# Altium schematic symbol library CONECTER.SchLib: 149 symbols (part 1 of 2)
Pins are listed as number, name and electrical type; pins without a type are passive.

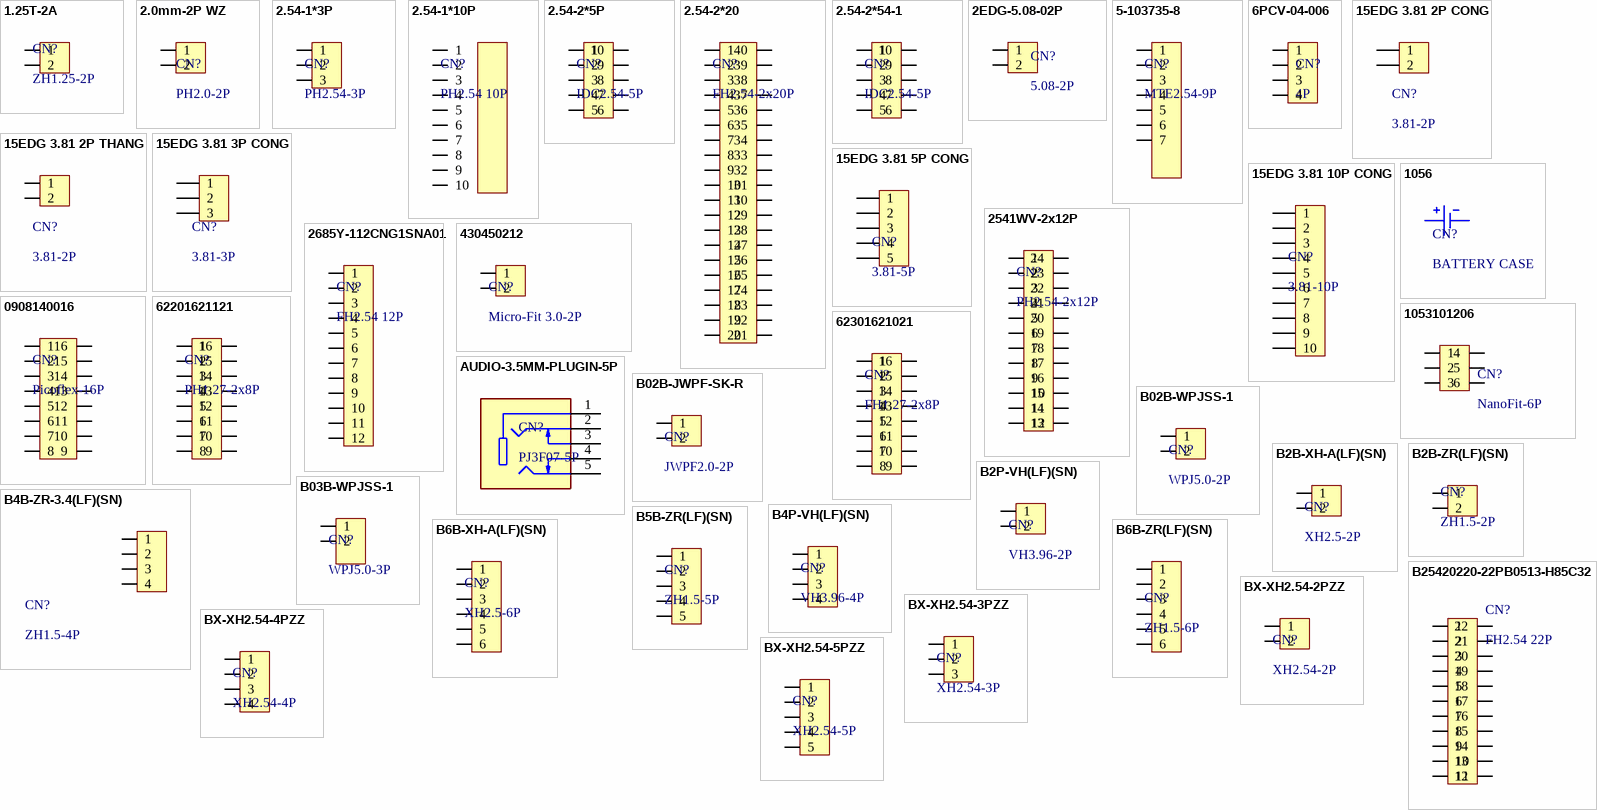
[diagram p0: symbols 1.25T-2A to BX-XH2.54-5PZZ]

## 1.25T-2A
designator CN?, comment ZH1.25-2P
2P 1x2P PicoBlade(MX 1.25) Tin -25℃~+85℃ Beige 1.25mm 250V 2 3A 1 Through Hole Through Hole,P=1.25mm Headers, Male Pins RoHS; Manufacturer: BOOMELE(Boom Precision Elec); Mfr.Part #: 1.25T-2A; LCSC Part #: C145970; Package: Through Hole,P=1.25mm; DigiKey Part Number: NO
footprint Plugin,P=1.25mm,2P
pins: 1, 2

## 2.0mm-2P WZ
designator CN?, comment PH2.0-2P
2P 1x2P PH Tin -25℃~+85℃ White 2mm 250V 2 1A 1 Right Angle Through Hole,Right Angle,P=2mm Headers, Male Pins RoHS; Manufacturer: SHOU HAN; Mfr.Part #: 2.0MM-2P WZ; So_Chan_Dan: 0; LCSC Part #: C5368738; Package: Through Hole,Right Angle,P=2mm; DigiKey Part Number: NO
footprint Push-Pull,P=2mm,2P-2
footprint Push-Pull,P=2mm,2P-1
footprint Plugin,P=2.54mm,2P-1
pins: 1, 2

## 2.54-1*3P
designator CN?, comment PH2.54-3P
3P 1x3P Gold Brass -40℃~+105℃ Black Pin Header 2.54mm 2.5mm 6mm 3mm 1 3A Through Hole Through Hole,P=2.54mm Headers, Male Pins RoHS; Manufacturer: BOOMELE(Boom Precision Elec); Mfr.Part #: 2.54-1*3P; LCSC Part #: C49257; Package: Through Hole,P=2.54mm; DigiKey Part Number: NO
footprint Plugin,P=2.54mm,3P,Pin Headers
pins: 1, 2, 3

## 2.54-1*10P
designator CN?, comment PH2.54 10P
3A Direct Insert Policy 10P -40℃~+105℃ 2.54mm Single Row Black 1x10P Plugin,P=2.54mm Pin Headers ROHS; Manufacturer: BOOMELE(Boom Precision Elec); Mfr.Part #: 2.54-1*10P; Name: PH2.54 1x10P THANG; So_Chan_Cam: 10; So_Chan_Dan: 0; Package: Plugin,P=2.54mm
footprint Plugin,P=2.54mm,10P,Pin Headers
footprint Plugin,P=2.54mm,10P-1
pins: 1, 2, 3, 4, 5, 6, 7, 8, 9, 10

## 2.54-2*5P
designator CN?, comment IDC2.54-5P
Connector IDC Header Through Hole 10 position 2.54mm; Manufacturer: BOOMELE(Boom Precision Elec); Mfr.Part #: 2.54-2*5P; LCSC Part #: C5665; Package: Through Hole,P=2.54mm; DigiKey Part Number: NO; ComponentLink1Description: Link; ComponentLink1URL: https://www.lcsc.com/product-detail/C5665.html?s_z=n_2.54-2%2a5P
footprint IDC Through Hole,Right Angle,P=2.54mm, 2x5P
pins: 1, 2, 3, 4, 5, 6, 7, 8, 9, 10

## 2.54-2*20
designator CN?, comment FH2.54-2x20P
Female Header 40 Position 2.54mm Pitch Dual Row Through Hole -40℃~+105℃; Manufacturer: ZHOURI; Mfr.Part #: 2.54-2*20; LCSC Part #: C2977589; Package: Through Hole,P=2.54mm; DigiKey Part Number: NO; ComponentLink1Description: Link; ComponentLink1URL: https://www.lcsc.com/datasheet/C2977589.pdf
footprint Plugin,P=2.54mm,2x20P,Female Headers
pins: 1, 2, 3, 4, 5, 6, 7, 8, 9, 10, 11, 12, 13, 14, 15, 16, 17, 18, 19, 20, 21, 22, 23, 24, 25, 26, 27, 28, 29, 30, 31, 32, 33, 34, 35, 36, 37, 38, 39, 40

## 2.54-2*54-1
designator CN?, comment IDC2.54-5P
Connector IDC Header Through Hole, Right Angle 10 position 2.54mm; Manufacturer: BOOMELE(Boom Precision Elec); Mfr.Part #: 2.54-2*5P; LCSC Part #: C9140; Package: Through Hole,Right Angle,P=2.54mm; DigiKey Part Number: NO; ComponentLink1Description: Link; ComponentLink1URL: https://www.lcsc.com/product-detail/C9140.html?s_z=n_2.54-2%2a5P
footprint IDC Through Hole,P=2.54mm, 2X5P
pins: 1, 2, 3, 4, 5, 6, 7, 8, 9, 10

## 2EDG-5.08-02P
designator CN?, comment 5.08-2P
320V 20A 2 Bend -40℃~+105℃ 1 5.08mm 1x2P Green Board Edge/Receptacle-Close Push-Pull,P=5.08mm Pluggable System Terminal Block ROHS; Manufacturer: DORABO; Mfr.Part #: DB2ERC-5.08-2P-GN; Name: 2EDG-5.08-02P; So_Chan_Cam: 2; So_Chan_Dan: 0; Package: Push-Pull,P=5.08mm
footprint Push-Pull,P=5.08mm,2P(2EDG-5.08-02P)
pins: 1, 2

## 5-103735-8
designator CN?, comment MTE2.54-9P
Connector Header Through Hole 9 position 0.100" (2.54mm); Manufacturer: TE Connectivity AMP Connectors; Mfr.Part #: 5-103735-8; DigiKey Part Number: A33940-ND; Package: Plugin,P=2.54mm
footprint Plugin,P=2.54mm,7P
footprint Plugin,P=2.54mm,7P-1
pins: 1, 2, 3, 4, 5, 6, 7

## 6PCV-04-006
designator CN?, comment 4P
4 Circuit 0.375" (9.53mm) Barrier Block Connector Screws; Manufacturer: TE Connectivity AMP Connectors; Mfr.Part #: 6PCV-04-006; So_Chan_Cam: 2; So_Chan_Dan: 0; Web: Digikey; Name: 6PCV-04-006; Package: Plugin,P=375mil; ComponentLink1Description: Link; ComponentLink1URL: https://www.te.com/usa-en/product-4-1437652-0.datasheet.pdf
footprint Plugin,P=375mil,L=811mil,4P
pins: 1, 2, 3, 4

## 15EDG 3.81 2P CONG
designator CN?, comment 3.81-2P
2 Straight Needle 1 3.81mm Green Plugin,P=3.81mm Pluggable System Terminal Block ROHS; Manufacturer: Phoenix Contact; Mfr.Part #: 5444262; Name: 15EDG 3.81 2P CONG; So_Chan_Dan: 0; So_Chan_Cam: 2; Package: Plugin,P=3.81,90°, Right Angle
footprint Plugin,P=3.81,90°, Right Angle,2P
pins: 1, 2

## 15EDG 3.81 2P THANG
designator CN?, comment 3.81-2P
3.81mm Plugin,P=3.81mm Pluggable System Terminal Block ROHS; Manufacturer: HCTL; Mfr.Part #: HC15EDGVC-3.81-2P-V; Name: 15EDG 3.81 2P CONG; So_Chan_Dan: 0; So_Chan_Cam: 2; Package: Plugin,P=3.81mm
footprint Plugin,P=3.81,2P
pins: 1, 2

## 15EDG 3.81 3P CONG
designator CN?, comment 3.81-3P
160V 8A 3 Bend 1 3.81mm 1x3P Green Receptacle-Close Push-Pull,P=3.81mm Pluggable System Terminal Block ROHS; Manufacturer: Phoenix Contact; Mfr.Part #: 1803280; Name: 15EDG 3.81 3P CONG; So_Chan_Dan: 0; So_Chan_Cam: 3; Package: Plugin,P=3.81,90°, Right Angle
footprint Plugin,P=3.81,90°, Right Angle,3P
pins: 1, 2, 3

## 15EDG 3.81 5P CONG
designator CN?, comment 3.81-5P
160V 8A 5 Bend 1 3.81mm 1x5P Green Receptacle-Close Push-Pull,P=3.81mm Pluggable System Terminal Block ROHS; Manufacturer: Phoenix Contact; Mfr.Part #: 1803303; Name: 15EDG 3.81 3P CONG; So_Chan_Dan: 0; So_Chan_Cam: 5; Package: Plugin,P=3.81,90°, Right Angle
footprint Plugin,P=3.81,90°, Right Angle,5P
pins: 1, 2, 3, 4, 5

## 15EDG 3.81 10P CONG
designator CN?, comment 3.81-10P
P=3.81mm Pluggable System Terminal Block ROHS; Manufacturer: Phoenix Contact; Mfr.Part #: 1803358; Name: 15EDG 3.81 10P CONG; So_Chan_Dan: 0; So_Chan_Cam: 10; Package: Plugin,P=3.81,90°, Right Angle
footprint Plugin,P=3.81,90°, Right Angle,10p
pins: 1, 2, 3, 4, 5, 6, 7, 8, 9, 10

## 1056
designator CN?, comment BATTERY CASE
SMD Battery Product Accessories RoHS; Manufacturer: Keystone; Mfr.Part #: 1056; So_Chan_Cam: 0; LCSC Part #: C238067; Package: SMD
footprint SMD,BAT_CASE_1056
pins: 1, 2

## 2541WV-2x12P
designator CN?, comment PH2.54-2x12P
Gold Straight Policy 2.54mm 6mm 24P -55℃~+105℃ 3mm 2.54mm Double Row 2x12P Plugin,P=2.54mm Pin Headers ROHS; Manufacturer: HanElectricity; Mfr.Part #: 2541WV-2x12P; Package: Plugin,P=2.54mm; LCSC Part #: C5383110
footprint Plugin,P=2.54mm,2X12P,Pin Headers
pins: 1, 2, 3, 4, 5, 6, 7, 8, 9, 10, 11, 12, 13, 14, 15, 16, 17, 18, 19, 20, 21, 22, 23, 24

## 2685Y-112CNG1SNA01
designator CN?, comment FH2.54 12P
2.54mm 2.54mm 3A Single Row Gold 12P -40℃~+105℃ Brass Straight 1x12P 8.5mm Top Square Hole Plugin,P=2.54mm Female Headers ROHS; Manufacturer: HOAUC; Mfr.Part #: 2685Y-112CNG1SNA01; Package: Plugin,P=2.54mm; LCSC Part #: C5110232
footprint Plugin,P=2.54mm,12p,Female Headers
pins: 1, 2, 3, 4, 5, 6, 7, 8, 9, 10, 11, 12

## 430450212
designator CN?, comment Micro-Fit 3.0-2P
2x1P 2P Micro-Fit(MX 3.0) Tin 3mm 1 -40℃~+105℃ 8.5A 2 3mm Brass Through Hole Plugin,P=3mm Wire To Board Connector ROHS; Manufacturer: MOLEX; Mfr.Part #: 430450212; LCSC Part #: C293362; Package: Plugin,P=3mm
footprint Push-Pull,P=2.54mm,2P
pins: 1, 2

## 0908140016
designator CN?, comment Picoflex-16P
Connector Header Surface Mount 16 position 0.050" (1.27mm); Manufacturer: Molex; Mfr.Part #: 0908140016; DigiKey Part Number: WM19280-ND; Package: SMD,1.27mm
footprint Plugin,P=2.54mm,2x15P,Female Headers
pins: 1, 2, 3, 4, 5, 6, 7, 8, 9, 10, 11, 12, 13, 14, 15, 16

## 1053101206
designator CN?, comment NanoFit-6P
Connector Header Through Hole 6 position 0.098" (2.50mm); Manufacturer: Molex; Mfr.Part #: 1053101206; DigiKey Part Number: WM14970-ND; Package: Plugin,P=2.5mm
footprint Plugin,P=2.5mm,2X3P,Nano-Fit 6P Male
pins: 1, 2, 3, 4, 5, 6

## 62201621121
designator CN?, comment PH1.27-2x8P
Connector Header Through Hole 16 position 0.050" (1.27mm); Manufacturer: Würth Elektronik; Mfr.Part #: 62201621121; DigiKey Part Number: 732-5376-ND; Package: Plugin,P=1.27mm
footprint Plugin,P=1.27mm,2X8P,Pin Headers
pins: 1, 2, 3, 4, 5, 6, 7, 8, 9, 10, 11, 12, 13, 14, 15, 16

## 62301621021
designator CN?, comment FH1.27-2x8P
16 Position Receptacle Connector 0.050" (1.27mm) Surface Mount Gold; Manufacturer: Würth Elektronik; Mfr.Part #: 62301621021; DigiKey Part Number: 732-62301621021-ND; Package: SMD,P=1.27mm
footprint SMD,P=1.27mm,2x8P
pins: 1, 2, 3, 4, 5, 6, 7, 8, 9, 10, 11, 12, 13, 14, 15, 16

## AUDIO-3.5MM-PLUGIN-5P
designator CN?, comment PJ3F07-5P
-30℃~+70℃ 3.5mm headphone jack 30V 500mA Plugin Audio Connectors ROHS; MF: CUI Devices; MP: SJ1-3525N; SnapEDA_Link: https://www.snapeda.com/parts/SJ1-3525N/CUI+Devices/view-part/?ref=snap; Package: None; Value: *; CUI_purchase_URL: https://www.cuidevices.com/product/interconnect/connectors/audio-connectors/jacks/sj1-3525n?utm_source=snapeda.com&utm_medium=referral&utm_campaign=snapedaBOM; Check_prices: https://www.snapeda.com/parts/SJ1-3525N/CUI+Devices/view-part/?ref=eda
footprint AUDIO-3.5MM-PLUGIN-5P
pins: 1, 2, 3, 4, 5

## B02B-JWPF-SK-R
designator CN?, comment JWPF2.0-2P
Connector Header Through Hole 2 position 0.079" (2.00mm); Manufacturer: JST Sales America Inc.; Mfr.Part #: B02B-JWPF-SK-R; DigiKey Part Number: 455-1991-ND; Package: Plugin,P=2mm
footprint Push-Pull,P=2.54mm,2P
pins: 1, 2

## B02B-WPJSS-1
designator CN?, comment WPJ5.0-2P
Connector Header Through Hole 2 position 0.197" (5.00mm); Manufacturer: JST Sales America Inc.; Mfr.Part #: B02B-WPJSS-1; DigiKey Part Number: 455-B02B-WPJSS-1-ND; Package: Plugin,P=5mm
footprint Push-Pull,P=2.54mm,2P
pins: 1, 2

## B2B-XH-A(LF)(SN)
designator CN?, comment XH2.5-2P
Connector Header 2 position 2.5mm Pitch 3A Through Hole -25℃~+85℃; Manufacturer: JST; Mfr.Part #: B2B-XH-A(LF)(SN); LCSC Part #: C158012; Package: Through Hole,P=2.5mm; DigiKey Part Number: 455-B2B-XH-A-ND; ComponentLink1Description: Link; ComponentLink1URL: https://www.lcsc.com/product-detail/C158012.html?s_z=n_B2B-XH-A; ComponentLink2Description: Link 1; ComponentLink2URL: https://www.digikey.com/en/products/detail/jst-sales-america-inc/B2B-XH-A/1651045?s=N4IgTCBcDaIEJjgWgBoAkkEEAUAZAYgJTYDKAcoSALoC%2BQA
footprint Through Hole,P=2.5mm,2P,JST
pins: 1, 2

## B2B-ZR(LF)(SN)
designator CN?, comment ZH1.5-2P
2P 1x2P ZH Tin -25℃~+85℃ White 1.5mm 50V 2 1A 1 Through Hole Through Hole,P=1.5mm Headers, Male Pins ROHS; Manufacturer: JST; Mfr.Part #: B2B-ZR(LF)(SN); DigiKey Part Number: 455-B2B-ZR(LF)(SN)(P)-ND; Package: Through Hole,P=1.5mm; LCSC Part #: C158011; ComponentLink1Description: Link; ComponentLink1URL: https://www.lcsc.com/product-detail/C158011.html?s_z=n_C158011; ComponentLink2Description: Link 1; ComponentLink2URL: https://www.digikey.com/en/products/detail/jst-sales-america-inc/B2B-ZR/926564?s=N4IgTCBcDaIEJjgWgFoCUAUAZAYgSgwGUA5PEAXQF8g
footprint Plugin,P=1.5mm,2P
pins: 1, 2

## B2P-VH(LF)(SN)
designator CN?, comment VH3.96-2P
Connector Header 2 position 3.96mm Pitch 10A Through Hole -25℃~+85℃; Manufacturer: JST; Mfr.Part #: B2P-VH(LF)(SN); LCSC Part #: C160315; Package: Through Hole,P=3.96mm; DigiKey Part Number: 455-1639-ND; ComponentLink1Description: Link; ComponentLink1URL: https://www.lcsc.com/product-detail/C160315.html?s_z=n_C160315; ComponentLink2Description: Link 1; ComponentLink2URL: https://www.digikey.com/en/products/detail/jst-sales-america-inc/B2P-VH/926547?s=N4IgTCBcDaIEJgAoFoBqAJAFAGQGIEpMBlAOXxAF0BfIA
footprint Through Hole,P=3.96mm,2P
pins: 1, 2

## B03B-WPJSS-1
designator CN?, comment WPJ5.0-3P
Connector Header Through Hole 3 position 0.197" (5.00mm); Manufacturer: JST Sales America Inc.; Mfr.Part #: B03B-WPJSS-1; DigiKey Part Number: 455-B03B-WPJSS-1-ND; Package: Plugin,P=5mm
footprint Push-Pull,P=2.54mm,2P
pins: 1, 2

## B4B-ZR-3.4(LF)(SN)
designator CN?, comment ZH1.5-4P
Connector Header 4 position 1.5mm Pitch 1A Through Hole -25℃~+85℃; Manufacturer: JST; Mfr.Part #: B4B-ZR-3.4(LF)(SN); LCSC Part #: C163034; Package: Through Hole,P=1.5mm; DigiKey Part Number: 455-B4B-ZR-3.4-ND; ComponentLink1Description: Link; ComponentLink1URL: https://www.lcsc.com/product-detail/C163034.html?s_z=n_B4B-ZR-3.4%28LF%29%28SN%29; ComponentLink2Description: Link 1; ComponentLink2URL: https://www.digikey.com/en/products/detail/jst-sales-america-inc/B4B-ZR-3-4/7802273?s=N4IgTCBcDaIEIBY4FoBaAlZBmAdAgFADIBiAlPgMoBypIAugL5A
footprint Plugin,P=1.5mm,4P
pins: 1, 2, 3, 4

## B4P-VH(LF)(SN)
designator CN?, comment VH3.96-4P
1x4P 4P VH Tin 4 -25℃~+85℃ 10A 1 3.96mm Brass Through Hole Through Hole,P=3.96mm Wire To Board Connector ROHS; Manufacturer: JST; Mfr.Part #: B4P-VH(LF)(SN); LCSC Part #: C160317; Package: Through Hole,P=3.96mm
footprint Push-Pull,P=3.96mm,4P
pins: 1, 2, 3, 4

## B5B-ZR(LF)(SN)
designator CN?, comment ZH1.5-5P
1x5P 5P ZH Tin 5 -25℃~+85℃ 1A 1 1.5mm Brass Straight Plugin,P=1.5mm Wire To Board Connector ROHS; Manufacturer: JST; Mfr.Part #: B5B-ZR(LF)(SN); LCSC Part #: C157990; Package: Plugin,P=1.5mm
footprint Plugin,P=1.5mm,5P
pins: 1, 2, 3, 4, 5

## B6B-XH-A(LF)(SN)
designator CN?, comment XH2.5-6P
Connector Header 6 position 2.5mm Pitch 3A Through Hole -25℃~+85℃; Manufacturer: JST; Mfr.Part #: B6B-XH-A(LF)(SN); LCSC Part #: C144397; Package: Through Hole,P=2.5mm; DigiKey Part Number: 455-B6B-XH-A-ND; ComponentLink1Description: Link; ComponentLink1URL: https://www.lcsc.com/product-detail/C144397.html; ComponentLink2Description: Link 1; ComponentLink2URL: https://www.digikey.com/en/products/detail/jst-sales-america-inc/B6B-XH-A/1000381?s=N4IgTCBcDaIEIDY4FoAaAJZBBAFAGQDEBKHAZQDkiQBdAXyA
footprint Through Hole,P=2.5mm,6P,JST
pins: 1, 2, 3, 4, 5, 6

## B6B-ZR(LF)(SN)
designator CN?, comment ZH1.5-6P
1x6P 6P ZH Tin 6 -25℃~+85℃ 1A 1 1.5mm Brass Straight Plugin,P=1.5mm Wire To Board Connector ROHS; Manufacturer: JST; Mfr.Part #: B6B-ZR(LF)(SN); LCSC Part #: C157984; Package: Through Hole,P=1.5mm; DigiKey Part Number: 455-B6B-ZR-ND
footprint Plugin,P=1.5mm,6P
pins: 1, 2, 3, 4, 5, 6

## B25420220-22PB0513-H85C32
designator CN?, comment FH2.54 22P
2.54mm 1 22P Gold -40℃~+105℃ 1x22P Top 8.5mm 3A Square Hole Through Hole Through Hole,P=2.54mm Headers, Receptacles, Female Sockets ROHS; Manufacturer: HMTCONN; Mfr.Part #: B25420220-22PB0513-H85C32; LCSC Part #: C42385708; Package: Through Hole,P=2.54mm
footprint Plugin,P=2.54mm,22P,Female Headers
pins: 1, 2, 3, 4, 5, 6, 7, 8, 9, 10, 11, 12, 13, 14, 15, 16, 17, 18, 19, 20, 21, 22

## BX-XH2.54-2PZZ
designator CN?, comment XH2.54-2P
Connector Header 2 position 2.5mm Pitch 3A Through Hole -25℃~+85℃; Manufacturer: Bossie; Mfr.Part #: BX-XH2.54-2PZZ; LCSC Part #: C18077833; Package: Through Hole,P=2.5mm; DigiKey Part Number: NO; ComponentLink1Description: Link; ComponentLink1URL: https://www.lcsc.com/product-detail/C18077833.html?s_z=n_BX-XH2.54-2PZZ
footprint Plugin,P=2.54mm,2P
pins: 1, 2

## BX-XH2.54-3PZZ
designator CN?, comment XH2.54-3P
Connector Header 3 position 2.5mm Pitch 3A Through Hole -25℃~+85℃; Manufacturer: Bossie; Mfr.Part #: BX-XH2.54-3PZZ; LCSC Part #: C18077834; Package: Through Hole,P=2.5mm; DigiKey Part Number: NO; ComponentLink1Description: Link; ComponentLink1URL: https://www.lcsc.com/product-detail/C18077834.html?s_z=n_BX-XH2.54-3PZZ
footprint Plugin,P=2.54mm,3P
pins: 1, 2, 3

## BX-XH2.54-4PZZ
designator CN?, comment XH2.54-4P
Connector Header 4 position 2.5mm Pitch 3A Through Hole -25℃~+85℃; Manufacturer: Bossie; Mfr.Part #: BX-XH2.54-4PZZ; LCSC Part #: C18077835; Package: Through Hole,P=2.5mm; DigiKey Part Number: NO; ComponentLink1Description: Link; ComponentLink1URL: https://www.lcsc.com/product-detail/C18077835.html?s_z=n_BX-XH2.54-4PZZ
footprint Plugin,P=2.54mm,4P
pins: 1, 2, 3, 4

## BX-XH2.54-5PZZ
designator CN?, comment XH2.54-5P
Connector Header 5 position 2.5mm Pitch 3A Through Hole -25℃~+85℃; Manufacturer: Bossie; Mfr.Part #: BX-XH2.54-5PZZ; LCSC Part #: C18077836; Package: Through Hole,P=2.5mm; DigiKey Part Number: NO; ComponentLink1Description: Link; ComponentLink1URL: https://www.lcsc.com/product-detail/C18077836.html?s_z=n_BX-XH2.54-5PZZ; ComponentLink2Description: Link 1
footprint Through Hole,P=2.5mm,5P
pins: 1, 2, 3, 4, 5

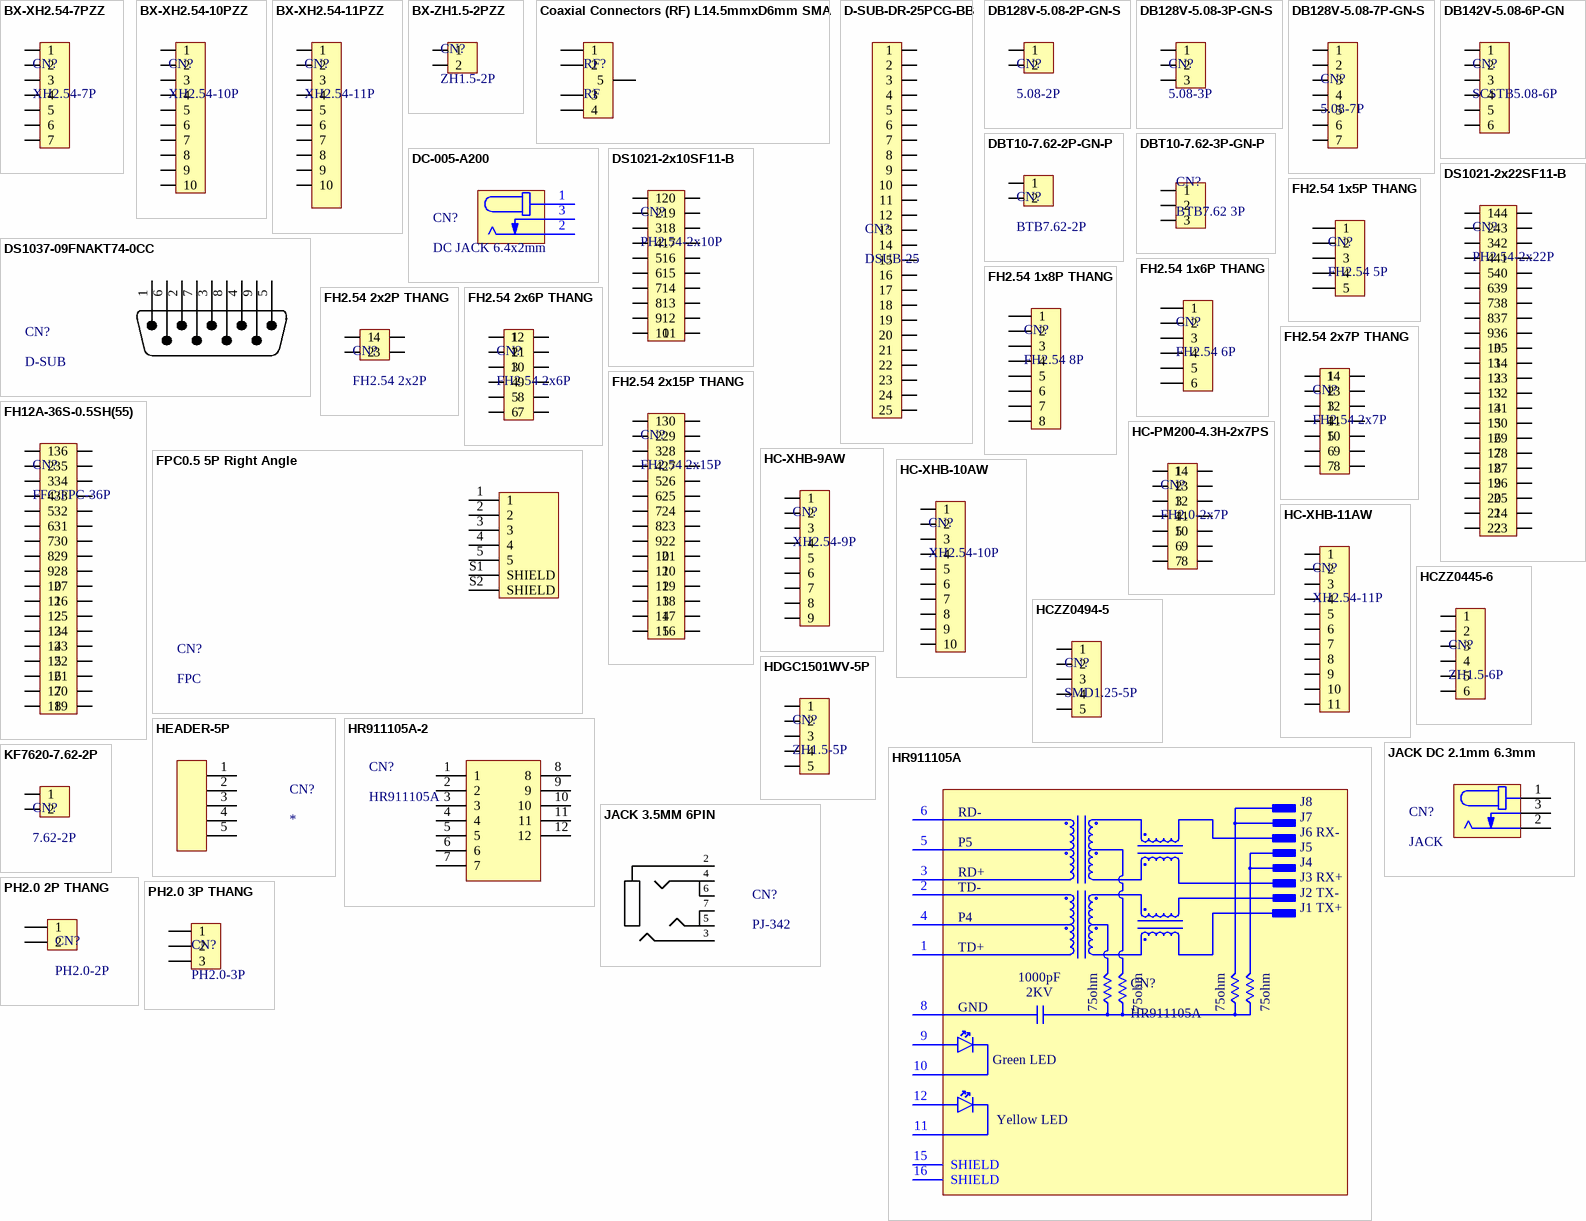
[diagram p1: symbols BX-XH2.54-7PZZ to PH2.0 3P THANG]

## BX-XH2.54-7PZZ
designator CN?, comment XH2.54-7P
Connector Header 7 position 2.5mm Pitch 3A Through Hole -25℃~+85℃; Manufacturer: Bossie; Mfr.Part #: BX-XH2.54-7PZZ; LCSC Part #: C18077838; Package: Through Hole,P=2.5mm; DigiKey Part Number: NO; ComponentLink1Description: Link; ComponentLink1URL: https://www.lcsc.com/product-detail/C18077838.html?s_z=n_BX-XH2.54-7PZZ; ComponentLink2Description: Link 1
footprint Plugin,P=2.54mm,7P
pins: 1, 2, 3, 4, 5, 6, 7

## BX-XH2.54-10PZZ
designator CN?, comment XH2.54-10P
Connector Header 10 position 2.5mm Pitch 3A Through Hole -25℃~+85℃; Manufacturer: Bossie; Mfr.Part #: BX-XH2.54-10PZZ; LCSC Part #: C18077841; Package: Through Hole,P=2.5mm; DigiKey Part Number: NO; ComponentLink1Description: Link; ComponentLink1URL: https://www.lcsc.com/product-detail/C18077841.html?s_z=n_BX-XH2.54-10PZZ
footprint Plugin,P=2.54mm,10P
pins: 1, 2, 3, 4, 5, 6, 7, 8, 9, 10

## BX-XH2.54-11PZZ
designator CN?, comment XH2.54-11P
Connector Header 11 position 2.5mm Pitch 3A Through Hole -25℃~+85℃; Manufacturer: Bossie; Mfr.Part #: BX-XH2.54-11PZZ; LCSC Part #: C22367994; Package: Through Hole,P=2.5mm; DigiKey Part Number: NO; ComponentLink1Description: Link; ComponentLink1URL: https://www.lcsc.com/product-detail/C22367994.html?s_z=n_BX-XH2.54-11PZZ
footprint Plugin,P=2.54mm,10P
pins: 1, 2, 3, 4, 5, 6, 7, 8, 9, 10

## BX-ZH1.5-2PZZ
designator CN?, comment ZH1.5-2P
1x3P 3P ZH Tin 3 -25℃~+85℃ 1A 1 1.5mm Brass Straight Plugin,P=1.5mm Wire To Board Connector ROHS; Manufacturer: Bossie; Mfr.Part #: BX-ZH1.5-2PZZ; Package: Through Hole,P=1.5mm; LCSC Part #: C18077727
footprint Plugin,P=1.5mm,2P
pins: 1, 2

## Coaxial Connectors (RF) L14.5mmxD6mm SMA
designator RF?, comment RF
1 Inner Hole SMA Board-End Elbow 50Ω 5.3mm Plugin Coaxial Connectors (RF) ROHS; Manufacturer: BAT WIRELESS; Mfr.Part #: BWSMA-KWE-Z001; Name: PH2.0 2P THANG; So_Chan_Cam: 5; So_Chan_Dan: 0; Package: Plugin
footprint SMA,RF
pins: 1, 2, 3, 4, 5

## D-SUB-DR-25PCG-BB
designator CN?, comment DSUB-25
Connector D-Sub, Male 25 Position 2 Row Through Hole, Right Angle; Mfr.Part#: D-SUB-DR-25PCG-BB; Manunfacturer: XUNPU; LCSC Part #: C19077345; Package: Through Hole,Right Angle; DigiKey Part Number: NO; ComponentLink1Description: Link; ComponentLink1URL: https://www.lcsc.com/product-detail/C19077345.html; ComponentLink2Description: Link 1
footprint D-Sub, 25P, Through Hole,Right Angle
pins: 1, 2, 3, 4, 5, 6, 7, 8, 9, 10, 11, 12, 13, 14, 15, 16, 17, 18, 19, 20, 21, 22, 23, 24, 25

## DB128V-5.08-2P-GN-S
designator CN?, comment 5.08-2P
2 Position Wire to Board Terminal Block Through Hole 5.08mm; Manufacturer: DORABO; Mfr.Part #: DB128V-5.08-2P-GN-S; LCSC Part #: C2915639; Package: Through Hole,P=5.08mm; DigiKey Part Number: NO; ComponentLink1Description: Link; ComponentLink1URL: https://www.lcsc.com/product-detail/C2915639.html?s_z=n_DB128V-5.08-2P-GN-S
footprint Through Hole,P=5.08mm,2P
pins: 1, 2

## DB128V-5.08-3P-GN-S
designator CN?, comment 5.08-3P
3 Position Wire to Board Terminal Block Through Hole 5.08mm; Manufacturer: DORABO; Mfr.Part #: DB128V-5.08-3P-GN-S; LCSC Part #: C2915640; Package: Through Hole,P=5.08mm; DigiKey Part Number: NO; ComponentLink1Description: Link; ComponentLink1URL: https://www.lcsc.com/product-detail/C2915640.html?s_z=n_DB128V-5.08-3P-GN-S; ComponentLink2Description: Link 1
footprint Through Hole,P=5.08mm,3P
pins: 1, 2, 3

## DB128V-5.08-7P-GN-S
designator CN?, comment 5.08-7P
7 Position Wire to Board Terminal Block Through Hole 2.54mm; Manufacturer: DORABO; Mfr.Part #: DB128V-5.08-7P-GN-S; LCSC Part #: C2927514; Package: Through Hole,P=5.08mm; DigiKey Part Number: NO; ComponentLink1Description: Link; ComponentLink1URL: https://www.lcsc.com/product-detail/C2927514.html; ComponentLink2Description: Link 1
footprint Through Hole,P=5.08mm,7P
pins: 1, 2, 3, 4, 5, 6, 7

## DB142V-5.08-6P-GN
designator CN?, comment SCSTB5.08-6P
1.5 5.08mm 14~24 1x6P -40℃~+105℃ 10A 6P 300V Straight Green 6 1 Plugin,P=5.08mm Spring Clamp System Terminal Block ROHS; Manufacturer: DORABO; Mfr.Part #: DB142V-5.08-6P-GN; Package: Plugin,P=5.08mm
footprint Plugin,P=5.08mm,6P-1
pins: 1, 2, 3, 4, 5, 6

## DBT10-7.62-2P-GN-P
designator CN?, comment BTB7.62-2P
1x2P Side Mount 2-Side 7.62mm 1 2 24A -40℃~+105℃ Green 14~22 Straight Pin Through Hole,P=7.62mm Barrier Blocks RoHS; Manufacturer: DORABO; Mfr.Part #: DBT10-7.62-2P-GN-P; LCSC Part #: C395930; Package: Through Hole,P=7.62mm; DigiKey Part Number: NO
footprint Plugin,P=7.62mm,2P
pins: 1, 2

## DBT10-7.62-3P-GN-P
designator CN?, comment BTB7.62 3P
1x3P Corner Double-sided 3 1 7.62mm 24A -40℃~+105℃ 450V Green 14~22 Straight Needle Plugin,P=7.62mm Barrier Terminal Blocks ROHS; Manufacturer: DORABO; Mfr.Part #: DBT10-7.62-3P-GN-P; Package: Plugin,P=7.62mm
footprint Plugin,P=7.62mm,3P
pins: 1, 2, 3

## DC-005-A200
designator CN?, comment DC JACK 6.4x2mm
Power Barrel Connector Jack 2mm ID 6.4mm OD Through Hole, Right Angle; Manufacturer: XUNPU; Mfr.Part #: DC-005-A200; LCSC Part #: C720557; Package: Through Hole; DigiKey Part Number: NO; ComponentLink1Description: Link; ComponentLink1URL: https://www.lcsc.com/product-detail/C720557.html
footprint Plugin,JACK DC
pins: 1, 2, 3

## DS1021-2x10SF11-B
designator CN?, comment PH2.54-2x10P
Pin Header 20 Position 2.54mm Pitch Dual Row Through Hole; Manufacturer: CONNFLY Elec; Mfr.Part #: DS1021-2x10SF11-B; LCSC Part #: C7430406; Package: Through Hole,P=2.54mm; DigiKey Part Number: NO
footprint Plugin,P=2.54mm,2X10P,PIN HEADERS
pins: 1, 2, 3, 4, 5, 6, 7, 8, 9, 10, 11, 12, 13, 14, 15, 16, 17, 18, 19, 20

## DS1021-2x22SF11-B
designator CN?, comment PH2.54-2x22P
Pin Header 44 Position 2.54mm Pitch Dual Row Through Hole; Manufacturer: CONNFLY Elec; Mfr.Part #: DS1021-2x22SF11-B; LCSC Part #: C7430418; Package: Through Hole,P=2.54mm; DigiKey Part Number: NO
footprint Plugin,P=2.54mm,2x22P,PIN HEADERS
pins: 1, 2, 3, 4, 5, 6, 7, 8, 9, 10, 11, 12, 13, 14, 15, 16, 17, 18, 19, 20, 21, 22, 23, 24, 25, 26, 27, 28, 29, 30, 31, 32, 33, 34, 35, 36, 37, 38, 39, 40, 41, 42, 43, 44

## DS1037-09FNAKT74-0CC
designator CN?, comment D-SUB
Connector Standard D-Sub, Female 9 Position 2 Row Through Hole, Right Angle; Manufacturer: CONNFLY Elec; Mfr.Part #: DS1037-09FNAKT74-0CC; LCSC Part #: C75749; Package: Through Hole,Right Angle; DigiKey Part Number: NO
footprint D-Sub, 9P,Push-Pull,Female
pins: 1, 2, 3, 4, 5, 6, 7, 8, 9

## FH2.54 1x5P THANG
designator CN?, comment FH2.54 5P
2.54mm Plugin 5P Straight 1x5P Plugin,P=2.54mm Female Headers ROHS; Manufacturer: BOOMELE(Boom Precision Elec); Mfr.Part #: 2.54-1*5P; Name: FH2.54 1x5P THANG; So_Chan_Cam: 5; So_Chan_Dan: 0; Package: Plugin,P=2.54mm
footprint Plugin,P=2.54mm,5P,Female Headers
pins: 1, 2, 3, 4, 5

## FH2.54 1x6P THANG
designator CN?, comment FH2.54 6P
2.54mm Plugin 6P Straight 1x6P Plugin,P=2.54mm Female Headers ROHS; Manufacturer: BOOMELE(Boom Precision Elec); Mfr.Part #: 2.54-1*6P; Name: FH2.54 1x6P THANG; So_Chan_Cam: 6; So_Chan_Dan: 0; Package: Plugin,P=2.54mm
footprint Plugin,P=2.54mm,6P,Female Headers
pins: 1, 2, 3, 4, 5, 6

## FH2.54 1x8P THANG
designator CN?, comment FH2.54 8P
2.54mm Single Row 8P Direct Insert 1x8P Plugin,P=2.54mm Female Headers ROHS; Manufacturer: BOOMELE(Boom Precision Elec); Mfr.Part #: 2.54-1*8P; Name: FH2.54 1x8P THANG; So_Chan_Cam: 8; So_Chan_Dan: 0; Package: Plugin,P=2.54mm
footprint Plugin,P=2.54mm,8P,Female Headers
pins: 1, 2, 3, 4, 5, 6, 7, 8

## FH2.54 2x2P THANG
designator CN?, comment FH2.54 2x2P
Top 2.54mm 8.5mm Direct Insert Square Hole -40℃~+105℃ 2x2P 2.54mm 3A Double Row 4P Copper alloy Plugin; Manufacturer: HCTL; Mfr.Part #: PM254-2-02-Z-8.5; Name: FH2.54 2x2P THANG; So_Chan_Cam: 4; So_Chan_Dan: 0; Package: Plugin,P=2.54mm
footprint Plugin,P=2.54mm,2x2P,Female Headers
pins: 1, 2, 3, 4

## FH2.54 2x6P THANG
designator CN?, comment FH2.54 2x6P
2.54mm 2.54mm Double Row 3A Copper alloy 12P -40℃~+105℃ Direct Insert 2x6P 8.5mm Top Square Hole Plugin,P=2.54mm Female Headers ROHS; Manufacturer: HCTL; Mfr.Part #: PM254-2-06-Z-8.5; Name: FH2.54 2x6P THANG; So_Chan_Cam: 12; So_Chan_Dan: 0; Package: Plugin,P=2.54mm
footprint Plugin,P=2.54mm,2x6P,Female Headers
pins: 1, 2, 3, 4, 5, 6, 7, 8, 9, 10, 11, 12

## FH2.54 2x7P THANG
designator CN?, comment FH2.54 2x7P
Top 2.54mm 8.5mm 2x7P Direct Insert Square Hole -40℃~+105℃ 2.54mm 3A Double Row 14P Copper alloy Plugin; Manufacturer: HCTL; Mfr.Part #: PM254-2-07-Z-8.5; Name: FH2.54 2x7P THANG; So_Chan_Cam: 14; So_Chan_Dan: 0; Package: Plugin,P=2.54mm
footprint Plugin,P=2.54mm,2x7P,Female Headers
pins: 1, 2, 3, 4, 5, 6, 7, 8, 9, 10, 11, 12, 13, 14

## FH2.54 2x15P THANG
designator CN?, comment FH2.54 2x15P
2.54mm 2.54mm Double Row 3A Copper alloy 30P -40℃~+105℃ Direct Insert 2x15P 8.5mm Top Square Hole Plugin,P=2.54mm Female Headers ROHS; Manufacturer: HCTL; Mfr.Part #: PM254-2-15-Z-8.5; Name: FH2.54 2x15P THANG; So_Chan_Cam: 30; So_Chan_Dan: 0; Package: Plugin,P=2.54mm
footprint Plugin,P=2.54mm,2x15P,Female Headers
pins: 1, 2, 3, 4, 5, 6, 7, 8, 9, 10, 11, 12, 13, 14, 15, 16, 17, 18, 19, 20, 21, 22, 23, 24, 25, 26, 27, 28, 29, 30

## FH12A-36S-0.5SH(55)
designator CN?, comment FFC/FPC-36P
FFC/FPC Connector 36 Position 0.5mm Pitch Top Contact Surface Mount, Right Angle -40℃~+85℃; Manufacturer: Hirose Electric Co Ltd; Mfr.Part #: FH12A-36S-0.5SH(55); LCSC Part #: C598000; Package: SMD,P=0.5mm,Surface Mount,Right Angle; DigiKey Part Number: HFK136TR-ND
footprint FH12A-36S-0.5SH(**)
pins: 1, 2, 3, 4, 5, 6, 7, 8, 9, 10, 11, 12, 13, 14, 15, 16, 17, 18, 19, 20, 21, 22, 23, 24, 25, 26, 27, 28, 29, 30, 31, 32, 33, 34, 35, 36

## FPC0.5 5P Right Angle
designator CN?, comment FPC
Drawer Type 6P Bottom Contact Horizontal attachment 0.5mm SMD,P=0.5mm,Surface Mount，Right Angle FFC, FPC (Flat Flexible) Connector Assemblies ROHS; Manufacturer: Warning; Name: None; So_Chan_Dan: 7; So_Chan_Cam: 0; Mfr.Part #: https://snapeda.com/shop?store=Mouser&id=2375057; Package: SMD,P=0.5mm,Surface Mount,Right Angle,5P
footprint SMD,P=0.5mm,Surface Mount,Right Angle,5P
pins: 1, 2, 3, 4, 5, S1 SHIELD, S2 SHIELD

## HC-PM200-4.3H-2x7PS
designator CN?, comment FH2.0-2x7P
14P 1.5A Surface Mount,Vertical -40℃~+105℃ 4.3mm 2x7P 2mm Top 2 Square Hole 2mm SMD,P=2mm Headers, Receptacles, Female Sockets RoHS; Manufacturer: Hong Cheng; Mfr.Part #: HC-PM200-4.3H-2x7PS; LCSC Part #: C22373875; Package: SMD,P=2mm; ComponentLink1Description: Link; ComponentLink1URL: https://www.lcsc.com/product-detail/C22373875.html; ComponentLink2Description: Link 1; DigiKey Part Number: NO
footprint SMD,P=2mm,7P
pins: 1, 2, 3, 4, 5, 6, 7, 8, 9, 10, 11, 12, 13, 14

## HC-XHB-9AW
designator CN?, comment XH2.54-9P
Connector Header 9 position 2.5mm Pitch 3A Right Angle -25℃~+85℃; Manufacturer: HCTL; Mfr.Part #: HC-XHB-9AW; LCSC Part #: C2845512; Package: Through Hole,Right Angle,P=2.5mm; DigiKey Part Number: NO
footprint Through Hole,Right Angle,P=2.5mm,9P
pins: 1, 2, 3, 4, 5, 6, 7, 8, 9

## HC-XHB-10AW
designator CN?, comment XH2.54-10P
Connector Header 10 position 2.5mm Pitch 3A Right Angle -25℃~+85℃; Manufacturer: HCTL; Mfr.Part #: HC-XHB-10AW; LCSC Part #: C2845513; Package: Through Hole,Right Angle,P=2.5mm; DigiKey Part Number: NO; ComponentLink1Description: Link; ComponentLink1URL: https://www.lcsc.com/product-detail/C2845513.html?s_z=n_HC-XHB-10AW
footprint Through Hole,Right Angle,P=2.5mm,10P
pins: 1, 2, 3, 4, 5, 6, 7, 8, 9, 10

## HC-XHB-11AW
designator CN?, comment XH2.54-11P
Connector Header 11 position 2.5mm Pitch 3A Right Angle -25℃~+85℃; Manufacturer: HCTL; Mfr.Part #: HC-XHB-11AW; LCSC Part #: C2845514; Package: Through Hole,Right Angle,P=2.5mm; DigiKey Part Number: NO; ComponentLink1Description: Link; ComponentLink1URL: https://www.lcsc.com/product-detail/C2845514.html?s_z=n_HC-XHB-11AW
footprint Through Hole,Right Angle,P=2.5mm,11P
pins: 1, 2, 3, 4, 5, 6, 7, 8, 9, 10, 11

## HCZZ0445-6
designator CN?, comment ZH1.5-6P
6P ZH 1x6P Tin -25℃~+85℃ Beige 1.5mm 250V 6 1A 1 Through Hole Through Hole,P=1.5mm Headers, Male Pins ROHS; Manufacturer: Hong Cheng; Mfr.Part #: HCZZ0445-6; LCSC Part #: C7433607; Package: Through Hole,P=1.5mm
footprint Plugin,P=1.5mm,6P
pins: 1, 2, 3, 4, 5, 6

## HCZZ0494-5
designator CN?, comment SMD1.25-5P
5P GH 1x5P Tin -25℃~+85℃ Beige 1.25mm 50V 5 1A 1 Surface Mount,Vertical SMD,p=1.25mm Headers, Male Pins ROHS; Manufacturer: Hong Cheng; Mfr.Part #: HCZZ0494-5; LCSC Part #: C7433501; Package: SMD,P=1.25mm
footprint SMD VERTICAL,P=1.25mm,5P
pins: 1, 2, 3, 4, 5

## HDGC1501WV-5P
designator CN?, comment ZH1.5-5P
5P 1x5P ZH Tin -25℃~+85℃ White 1.5mm 100V 5 1A 1 Through Hole Through Hole,P=1.5mm Headers, Male Pins ROHS; Manufacturer: HDGC; Mfr.Part #: HDGC1501WV-5P; LCSC Part #: C5175215; Package: Through Hole,P=1.5mm
footprint Plugin,P=1.5mm,5P
pins: 1, 2, 3, 4, 5

## HEADER-5P
designator CN?
footprint GX16-5P
pins: 1 13, 2 14, 3 15, 4 16, 5 17

## HR911105A
designator CN?
1 With LED Through Hole Modular/Ethernet Connector Jacks With Magnetics RoHS; Manufacturer: HANRUN(Zhongshan HanRun Elec); Package: Through Hole; LCSC Part #: C12074; DigiKey Part Number: NO; Mfr.Part #: HR911105A
footprint Plugin,RJ45,1
pins: 1 TD+, 2 TD-, 3 RD+, 4 P4, 5 P5, 6 RD-, 8 GND (power), 9 GA, 10 GC, 11 YC, 12 YA, 15 SHIELD, 16 SHIELD
text: J8; J7; J6 RX-; J5; J4; J3 RX+; J2 TX-; J1 TX+; 1000pF; 2KV; 75ohm; Green LED; Yellow LED

## HR911105A-2
designator CN?, comment HR911105A
RJ45Receptacle 1 WithLED Plugin Ethernet Connectors / Modular Connectors (RJ45 RJ11) ROHS; Manufacturer: HANRUN(Zhongshan HanRun Elec); So_Chan_Cam: 14; So_Chan_Dan: 0; Mfr.Part #: HR911105A; Name: HR911105A; Package: Plugin,P=2.54mm
footprint Plugin,RJ45,1
pins: 1, 2, 3, 4, 5, 6, 7, 8, 9, 10, 11, 12

## JACK 3.5MM 6PIN
designator CN?, comment PJ-342
-30℃~+70℃ 3.5mm Headphone Jack 30V 500mA SMD Audio Connectors (Headphones) ROHS; Manufacturer: SHOU HAN; Name: JACK 3.5MM 6PIN; So_Chan_Cam: 0; So_Chan_Dan: 6; Mfr.Part #: PJ-342; Package: PJ-342
footprint SMD-AUDIO-3.5MM-6PIN
pins: 2, 3, 4, 5, 6, 7

## JACK DC 2.1mm 6.3mm
designator CN?, comment JACK
Bend insert DC Power Receptacle -40℃~+55℃ 2.1mm 6.3mm 500mA 30V Plugin DC Power Connectors ROHS; Manufacturer: GANGYUAN; Mfr.Part #: DC-470-2.1GP; Name: JACK DC 2.1mm 6.3mm; So_Chan_Cam: 3; So_Chan_Dan: 0; Package: Plugin
footprint Plugin,JACK DC
pins: 1, 2, 3

## KF7620-7.62-2P
designator CN?, comment 7.62-2P
2 Position Wire to Board Terminal Block Through Hole 7.62mm; Manufacturer: Cixi Kefa Elec; Mfr.Part #: KF7620-7.62-2P; LCSC Part #: C475104; Package: Through Hole,P=7.62mm; DigiKey Part Number: NO; ComponentLink1Description: Link; ComponentLink1URL: https://www.lcsc.com/product-detail/C475104.html?s_z=n_KF7620-7.62-2P
footprint Through Hole,P=7.62mm,2P-1
pins: 1, 2

## PH2.0 2P THANG
designator CN?, comment PH2.0-2P
1x2P 2P PH Tin 2 -25℃~+85℃ 2A 1 2mm Brass Direct Insert Plugin,P=2mm Wire To Board Connector ROHS; Manufacturer: JST; Mfr.Part #: B2B-PH-K-S(LF)(SN); Name: PH2.0 2P THANG; So_Chan_Cam: 2; So_Chan_Dan: 0; Package: Plugin,P=2mm
footprint Plugin,P=2mm,2P
pins: 1, 2

## PH2.0 3P THANG
designator CN?, comment PH2.0-3P
1x3P 3P PH Tin 3 -25℃~+85℃ 2A 1 2mm Brass Direct Insert Plugin,P=2mm Wire To Board Connector ROHS; Manufacturer: JST; Mfr.Part #: B3B-PH-K-S(LF)(SN); Name: PH2.0 3P THANG; So_Chan_Cam: 3; So_Chan_Dan: 0; Package: Plugin,P=2mm
footprint Plugin,P=2mm,3P
pins: 1, 2, 3

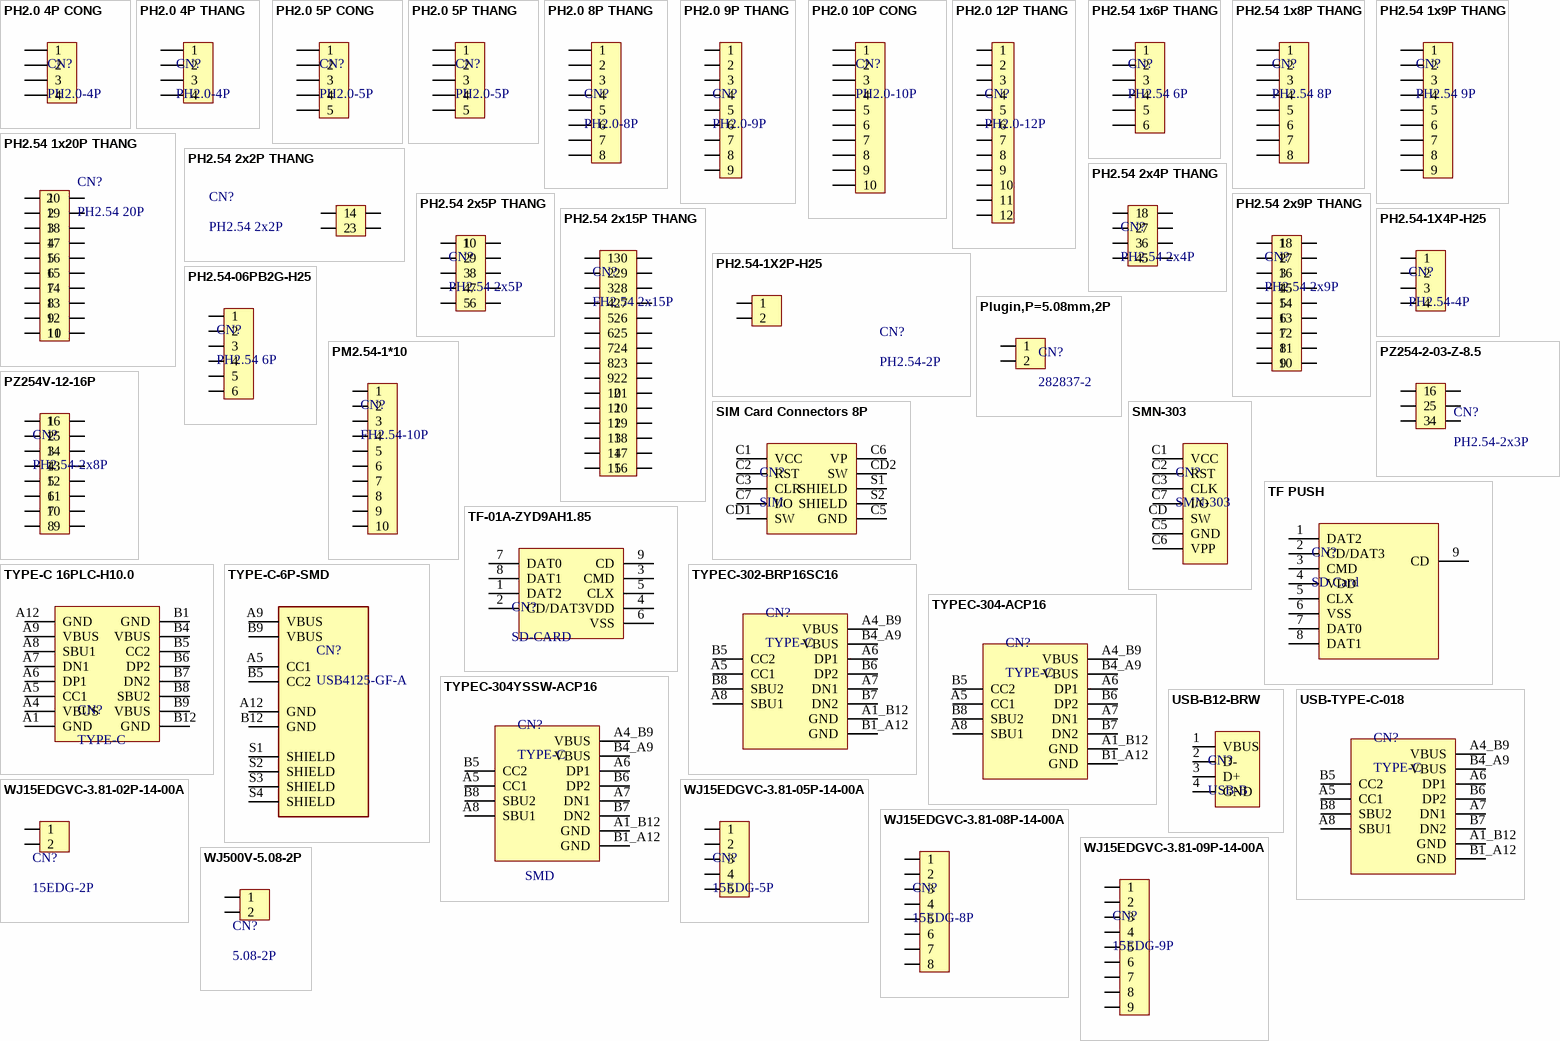
[diagram p2: symbols PH2.0 4P CONG to WJ500V-5.08-2P]

## PH2.0 4P CONG
designator CN?, comment PH2.0-4P
1x4P 4P PH 1 Tin 2mm 2mm 4 -25℃~+85℃ Brass 1A Bend insert Push-Pull,P=2mm Wire To Board Connector ROHS; Manufacturer: SHOU HAN; Mfr.Part #: 2.0MM-4P WZ; Name: PH2.0 4P THANG; So_Chan_Cam: 4; So_Chan_Dan: 0; Package: Push-Pull,P=2mm
footprint Push-Pull,P=2mm,4P-1
footprint Push-Pull,P=2mm,4P-2
pins: 1, 2, 3, 4

## PH2.0 4P THANG
designator CN?, comment PH2.0-4P
1x4P 4P PH Tin 4 -25℃~+85℃ 2A 1 2mm Brass Direct Insert Plugin,P=2mm Wire To Board Connector ROHS; Manufacturer: JST; Mfr.Part #: B4B-PH-K-S(LF)(SN); Name: PH2.0 4P THANG; So_Chan_Cam: 4; So_Chan_Dan: 0; Package: Plugin,P=2mm
footprint Plugin,P=2mm,4P
footprint Plugin,P=2.54mm,4P-1
pins: 1, 2, 3, 4

## PH2.0 5P CONG
designator CN?, comment PH2.0-5P
1x5P 5P PH 1 Tin 2mm 2mm 5 -25℃~+85℃ Brass 1A Bend insert Push-Pull,P=2mm Wire To Board Connector ROHS; Manufacturer: SHOU HAN; Mfr.Part #: 2.0MM-5P WZ; Name: PH2.0 2P THANG; So_Chan_Cam: 5; So_Chan_Dan: 0; Package: Push-Pull,P=2mm
footprint Push-Pull,P=2mm,5P-1
footprint Push-Pull,P=2mm,5P-2
pins: 1, 2, 3, 4, 5

## PH2.0 5P THANG
designator CN?, comment PH2.0-5P
1x5P 5P PH Tin 5 -25℃~+85℃ 2A 1 2mm Brass Straight Plugin,P=2mm Wire To Board Connector ROHS; Manufacturer: JST; Mfr.Part #: B5B-PH-K-S(LF)(SN); Name: PH2.0 2P THANG; So_Chan_Cam: 5; So_Chan_Dan: 0; Package: Plugin,P=2mm
footprint Plugin,P=2mm,5P
pins: 1, 2, 3, 4, 5

## PH2.0 8P THANG
designator CN?, comment PH2.0-8P
1x8P 8P PH Tin 8 -25℃~+85℃ 2A 1 2mm Brass Straight Plugin,P=2mm Wire To Board Connector ROHS; Manufacturer: JST; Mfr.Part #: B8B-PH-K-S(LF)(SN); Name: PH2.0 2P THANG; So_Chan_Cam: 8; So_Chan_Dan: 0; Package: Plugin,P=2mm
footprint Plugin,P=2mm,8P
pins: 1, 2, 3, 4, 5, 6, 7, 8

## PH2.0 9P THANG
designator CN?, comment PH2.0-9P
1x9P 9P PH Tin 9 -25℃~+85℃ 2A 1 2mm Brass Direct Insert Plugin,P=2mm Wire To Board Connector ROHS; Manufacturer: JST; Mfr.Part #: B9B-PH-K-S(LF)(SN); Name: PH2.0 9P THANG; So_Chan_Cam: 9; So_Chan_Dan: 0; Package: Plugin,P=2mm
footprint Plugin,P=2mm,9P
pins: 1, 2, 3, 4, 5, 6, 7, 8, 9

## PH2.0 10P CONG
designator CN?, comment PH2.0-10P
1x10P 10P 1 2mm 10 -25℃~+85℃ 1A Bend insert Push-Pull,P=2mm Wire To Board Connector ROHS; Manufacturer: SHOU HAN; Mfr.Part #: 2.0mm-10P WZ; Name: PH2.0 10P CONG; So_Chan_Cam: 10; So_Chan_Dan: 0; Package: Push-Pull,P=2mm
footprint Push-Pull,P=2mm,10P-2
pins: 1, 2, 3, 4, 5, 6, 7, 8, 9, 10

## PH2.0 12P THANG
designator CN?, comment PH2.0-12P
1x12P 12P PH Tin 12 -25℃~+85℃ 2A 1 2mm Brass Direct Insert Plugin,P=2mm Wire To Board Connector ROHS; Manufacturer: JST; Mfr.Part #: B12B-PH-K-S(LF)(SN); Name: PH2.0 12P THANG; So_Chan_Cam: 12; So_Chan_Dan: 0; Package: Plugin,P=2mm
footprint Plugin,P=2mm,12P
pins: 1, 2, 3, 4, 5, 6, 7, 8, 9, 10, 11, 12

## PH2.54 1x6P THANG
designator CN?, comment PH2.54 6P
3A Direct Insert Policy 6P -40℃~+105℃ 2.54mm Single Row Black Brass 1x6P Plugin,P=2.54mm Pin Headers ROHS; Manufacturer: BOOMELE(Boom Precision Elec); Mfr.Part #: 2.54-1x6P; Name: PH2.54 1x6P THANG; So_Chan_Cam: 6; So_Chan_Dan: 0; Package: Plugin,P=2.54mm
footprint Plugin,P=2.54mm,6P,Pin Headers
footprint Plugin,P=2.54mm,6P-1
pins: 1, 2, 3, 4, 5, 6

## PH2.54 1x8P THANG
designator CN?, comment PH2.54 8P
Gold 3A Direct Insert Policy 2.5mm 8P 6mm -40℃~+105℃ 3mm 2.54mm Black Brass Single Row 1x8P Plugin,P=2.54mm Pin Headers ROHS; Manufacturer: hanxia; Mfr.Part #: HX PZ2.54-1x8P ZZ; Name: PH2.54 1x8P THANG; So_Chan_Cam: 8; So_Chan_Dan: 0; Package: Plugin,P=2.54mm
footprint Plugin,P=2.54mm,8P,Pin Headers
footprint Plugin,P=2.54mm,8P-1
pins: 1, 2, 3, 4, 5, 6, 7, 8

## PH2.54 1x9P THANG
designator CN?, comment PH2.54 9P
Gold 3A Direct Insert Policy 2.5mm 6mm 9P -40℃~+105℃ 3mm 2.54mm Black Single Row 1x9P Plugin,P=2.54mm Pin Headers ROHS; Manufacturer: hanxia; Mfr.Part #: HX PZ2.54-1x9P ZZ; Name: PH2.54 1x9P THANG; So_Chan_Cam: 9; So_Chan_Dan: 0; Package: Plugin,P=2.54mm
footprint Plugin,P=2.54mm,9P,Pin Headers
pins: 1, 2, 3, 4, 5, 6, 7, 8, 9

## PH2.54 1x20P THANG
designator CN?, comment PH2.54 20P
3A Straight Policy 20P -40℃~+105℃ 2.54mm Single Row Black Brass 1x20P Plugin,P=2.54mm Pin Headers ROHS; Manufacturer: BOOMELE(Boom Precision Elec); Mfr.Part #: 2.54-1*20P; Name: PH2.54 1x20P THANG; So_Chan_Cam: 20; So_Chan_Dan: 0; Package: Plugin,P=2.54mm
footprint Plugin,P=2.54mm,20P,Pin Headers
footprint Plugin,P=2.54mm,20P,Pin Headers-1
pins: 1, 2, 3, 4, 5, 6, 7, 8, 9, 10, 11, 12, 13, 14, 15, 16, 17, 18, 19, 20

## PH2.54 2x2P THANG
designator CN?, comment PH2.54 2x2P
3A Direct Insert Policy 2.5mm 4P 6mm -40℃~+105℃ 3mm 2.54mm Double Row Black Brass 2x2P 2.54mm Plugin,P=2.54mm Pin Headers ROHS; Manufacturer: HCTL; Mfr.Part #: PZ254-2-02-Z-8.5; Name: PH2.54 2x2P THANG; So_Chan_Cam: 4; So_Chan_Dan: 0; Package: Plugin,P=2.54mm
footprint Plugin,P=2.54mm,2X2P,Pin Headers
pins: 1, 2, 3, 4

## PH2.54 2x4P THANG
designator CN?, comment PH2.54 2x4P
3A Direct Insert Policy 2.5mm 8P 6mm -40℃~+105℃ 3mm 2.54mm Double Row Black Brass 2.54mm 2x4P Plugin,P=2.54mm Pin Headers ROHS; Manufacturer: HCTL; Mfr.Part #: PZ254-2-04-Z-8.5; Name: PH2.54 2x4P THANG; So_Chan_Cam: 8; So_Chan_Dan: 0; Package: Plugin,P=2.54mm
footprint Plugin,P=2.54mm,2X4P,Pin Headers
pins: 1, 2, 3, 4, 5, 6, 7, 8

## PH2.54 2x5P THANG
designator CN?, comment PH2.54 2x5P
3A Direct Insert Policy 2.5mm 10P 6mm -40℃~+105℃ 3mm 2.54mm Double Row Black Brass 2x5P 2.54mm Plugin,P=2.54mm Pin; Manufacturer: HCTL; Mfr.Part #: PZ254-2-05-Z-8.5; Name: PH2.54 2x5P THANG; So_Chan_Cam: 10; So_Chan_Dan: 0; Package: Plugin,P=2.54mm
footprint Plugin,P=2.54mm,2X5P,Pin Headers
pins: 1, 2, 3, 4, 5, 6, 7, 8, 9, 10

## PH2.54 2x9P THANG
designator CN?, comment PH2.54 2x9P
3A Direct Insert Policy 2.5mm 260℃@10S 36P 6mm -40℃~+105℃ 3mm 2.54mm Double Row Black Brass 2x18P 2.54mm Plugin,P=2.54mm Pin Headers ROHS; Manufacturer: HCTL; Mfr.Part #: PZ254-2-18-Z-8.5; Name: PH2.54 2x9P THANG; So_Chan_Cam: 18; So_Chan_Dan: 0; Package: Plugin,P=2.54mm
footprint Plugin,P=2.54mm,2X9P,Pin Headers
pins: 1, 2, 3, 4, 5, 6, 7, 8, 9, 10, 11, 12, 13, 14, 15, 16, 17, 18

## PH2.54 2x15P THANG
designator CN?, comment FH2.54 2x15P
2.54mm 2.54mm Double Row 3A Copper alloy 30P -40℃~+105℃ Direct Insert 2x15P 8.5mm Top Square Hole Plugin,P=2.54mm Female Headers ROHS; Manufacturer: HCTL; Mfr.Part #: PM254-2-15-Z-8.5; Name: FH2.54 2x15P THANG; So_Chan_Cam: 30; So_Chan_Dan: 0; Package: Plugin,P=2.54mm
footprint Plugin,P=2.54mm,2x15P,Pin Headers
pins: 1, 2, 3, 4, 5, 6, 7, 8, 9, 10, 11, 12, 13, 14, 15, 16, 17, 18, 19, 20, 21, 22, 23, 24, 25, 26, 27, 28, 29, 30

## PH2.54-1X2P-H25
designator CN?, comment PH2.54-2P
Pin Header 2 Position 2.54mm Pitch Single Row Through Hole -40℃~+105℃; Manufacturer: JXTCONN; Mfr.Part #: PH2.54-1X2P-H25; LCSC Part #: C42431798; Package: Through Hole,P=2.54mm; DigiKey Part Number: NO; ComponentLink1Description: Link; ComponentLink1URL: https://www.lcsc.com/product-detail/C42431798.html?s_z=n_2.54-1%2a2P
footprint Plugin,P=2.54mm,2P,Pin Headers
pins: 1, 2

## PH2.54-1X4P-H25
designator CN?, comment PH2.54-4P
Pin Header 4 Position 2.54mm Pitch Single Row Through Hole -40℃~+105℃; Manufacturer: JXTCONN; Mfr.Part #: PH2.54-1X4P-H25; DigiKey Part Number: NO; Package: Plugin,P=2.54mm; LCSC Part #: C42431808
footprint Plugin,P=2.54mm,4P,Pin Headers
pins: 1, 2, 3, 4

## PH2.54-06PB2G-H25
designator CN?, comment PH2.54 6P
Gold 3A Through Hole Pin Header 2.5mm 6P 6mm -40℃~+105℃ 3mm 2.54mm Brass Black 1 1x6P Through Hole,P=2.54mm Pin Headers ROHS; Manufacturer: JXTCONN; Mfr.Part #: PH2.54-06PB2G-H25; LCSC Part #: C42431807; Package: Through Hole,P=2.54mm
footprint Plugin,P=2.54mm,6P,Pin Headers
pins: 1, 2, 3, 4, 5, 6

## Plugin,P=5.08mm,2P
designator CN?, comment 282837-2
13.5A 300V Green 16~28 Straight 5.08mm 1 3 Plugin,P=5.08mm Screw terminal ROHS; MF: TE Connectivity; SnapEDA_Link: https://www.snapeda.com/parts/282837-2/TE+Connectivity+AMP+Connectors/view-part/?ref=snap; Price: None; Check_prices: https://www.snapeda.com/parts/282837-2/TE+Connectivity+AMP+Connectors/view-part/?ref=eda; Purchase-URL: https://pricing.snapeda.com/search/part/282837-2/?ref=eda; MP: 282837-2; Value: *; Availability: In Stock; Package: None
footprint Plugin,P=5.08mm,2P
pins: 1, 2

## PM2.54-1*10
designator CN?, comment FH2.54-10P
Female Header 10 Position 2.54mm Pitch Single Row Through Hole -40℃~+105℃; Manufacturer: ZHOURI; Mfr.Part #: PM2.54-1*10; LCSC Part #: C5116489; Package: Through Hole,P=2.54mm; DigiKey Part Number: NO
footprint Plugin,P=2.54mm,10P,FEMALE HEADERS
pins: 1, 2, 3, 4, 5, 6, 7, 8, 9, 10

## PZ254-2-03-Z-8.5
designator CN?, comment PH2.54-2x3P
6P 2x3P Brass -40℃~+105℃ Black Pin Header 2.54mm 2.5mm 6mm 3mm 2 3A Through Hole 2.54mm Through Hole,P=2.54mm Headers, Male Pins RoHS; Manufacturer: HCTL; Mfr.Part #: PZ254-2-03-Z-8.5; LCSC Part #: PH2.54 2x3P THANG; Package: Through Hole,P=2.54mm; DigiKey Part Number: NO
footprint Plugin,P=2.54mm,2X3P,Pin Headers
pins: 1, 2, 3, 4, 5, 6

## PZ254V-12-16P
designator CN?, comment PH2.54-2x8P
Pin Header 16 Position 2.54mm Pitch Dual Row Through Hole -40℃~+105℃; Manufacturer: XFCN; Mfr.Part #: PZ254V-12-16P; LCSC Part #: C492425; Package: Through Hole,P=2.54mm; DigiKey Part Number: NO
footprint Plugin,P=2.54mm,2X8P,Pin Headers
pins: 1, 2, 3, 4, 5, 6, 7, 8, 9, 10, 11, 12, 13, 14, 15, 16

## SIM Card Connectors 8P
designator CN?, comment SIM
Self-bouncing 1.8mm Card Slot -40℃~+85℃ MiniSIM card SMD SIM Card Connectors ROHS; Manufacturer: MOLEX; Mfr.Part #: 475531001; Name: SIM Card Connectors 8P; So_Chan_Cam: 0; So_Chan_Dan: 10; Package: SMD
footprint SMD-SIM
pins: C1 VCC, C2 RST, C3 CLR, C5 GND, C6 VP, C7 I/O, CD1 SW, CD2 SW, S1 SHIELD, S2 SHIELD

## SMN-303
designator CN?
Card Connector NANO SIM Push-Push Surface Mount; Manufacturer: XUNPU; Mfr.Part #: SMN-303; LCSC Part #: C266888; Package: SMD; DigiKey Part Number: NO; ComponentLink1Description: Link; ComponentLink1URL: https://www.lcsc.com/product-detail/C266888.html?s_z=n_SMN303; ComponentLink2Description: Link 1
footprint SIM_NANO_CARD_SMD
pins: C1 VCC, C2 RST, C3 CLK, C5 GND, C6 VPP, C7 I/O, CD SW

## TF PUSH
designator CN?, comment SD Card
-25℃~+90℃ Push-Push 2mm Connector and Ejector MicroSD Card (TF Card) SMD PC Card Sockets ROHS; Manufacturer: SHOU HAN; Mfr.Part #: TF PUSH; LCSC Part #: C393941; Package: SMD; DigiKey Part Number: NO
footprint SMD-SD CARD
pins: 1 DAT2, 2 CD/DAT3, 3 CMD, 4 VDD, 5 CLX, 6 VSS, 7 DAT0, 8 DAT1, 9 CD

## TF-01A-ZYD9AH1.85
designator CN?, comment SD-CARD
Micro SD card (TF card) Surface Mount; Manufacturer: XYECONN; Mfr.Part #: TF-01A-ZYD9AH1.85; LCSC Part #: C20613191; Package: SMD; DigiKey Part Number: NO
footprint SMD-SD CARD
pins: 1 DAT2, 2 CD/DAT3, 3 CMD, 4 VDD, 5 CLX, 6 VSS, 7 DAT0, 8 DAT1, 9 CD

## TYPE-C 16PLC-H10.0
designator CN?, comment TYPE-C
USB-C (USB TYPE-C) Receptacle Connector 16 Position Through Hole; Manufacturer: SHOU HAN; Mfr.Part #: TYPE-C 16PLC-H10.0; LCSC Part #: C3151747; Package: Through Hole; DigiKey Part Number: NO; ComponentLink1Description: Link; ComponentLink1URL: https://www.lcsc.com/product-detail/C3151747.html?s_z=n_TYPE-C
footprint TYPE-C-16P-4
pins: A1 GND (power), A4 VBUS (power), A5 CC1, A6 DP1, A7 DN1, A8 SBU1, A9 VBUS (power), A12 GND (power), B1 GND (power), B4 VBUS (power), B5 CC2, B6 DP2, B7 DN2, B8 SBU2, B9 VBUS (power), B12 GND (power)

## TYPE-C-6P-SMD
designator CN?, comment USB4125-GF-A
CONN RCPT TYPE C 6P SMD RA; MP: USB4125-GF-A_REVA2; Package: None; Availability: Unavailable; Value: *; Price: None
footprint TYPE-C-6P-SMD
pins: A5 CC1, A9 VBUS (power), A12 GND (power), B5 CC2, B9 VBUS (power), B12 GND (power), S1 SHIELD, S2 SHIELD, S3 SHIELD, S4 SHIELD

## TYPEC-302-BRP16SC16
designator CN?, comment TYPE-C
5A USB 3.1 1 260℃ Sink board 16P Female -45℃~+85℃ Type-C SMD USB Connectors ROHS; Manufacturer: XUNPU; Mfr.Part #: TYPEC-302-BRP16SC16; DigiKey Part Number: NO; LCSC Part #: C2835313; Package: SMD
footprint TYPE-C-16P-1
pins: A1_B12 GND (power), A4_B9 VBUS (power), A5 CC1, A6 DP1, A7 DN1, A8 SBU1, B1_A12 GND (power), B4_A9 VBUS (power), B5 CC2, B6 DP2, B7 DN2, B8 SBU2

## TYPEC-304-ACP16
designator CN?, comment TYPE-C
3A 1 Horizontal attachment 16P Female -40℃~+85℃ Type-C SMD USB Connectors ROHS; Manufacturer: XUNPU; Mfr.Part #: TYPEC-304-ACP16; So_Chan_Dan: 20; So_Chan_Cam: 0; Name: TYPEC-304-ACP16; Package: SMD
footprint TYPE-C-16P-2
pins: A1_B12 GND (power), A4_B9 VBUS (power), A5 CC1, A6 DP1, A7 DN1, A8 SBU1, B1_A12 GND (power), B4_A9 VBUS (power), B5 CC2, B6 DP2, B7 DN2, B8 SBU2

## TYPEC-304YSSW-ACP16
designator CN?, comment TYPE-C  Package: SMD
1 16P -25℃~+85℃ Type-C SMD USB, DVI, HDMI Connector Assemblies RoHS; Manufacturer: XUNPU; Mfr.Part #: TYPEC-304YSSW-ACP16; LCSC Part #: C2840392; DigiKey Part Number: NO
footprint TYPE-C-16P-3
pins: A1_B12 GND (power), A4_B9 VBUS (power), A5 CC1, A6 DP1, A7 DN1, A8 SBU1, B1_A12 GND (power), B4_A9 VBUS (power), B5 CC2, B6 DP2, B7 DN2, B8 SBU2

## USB-B12-BRW
designator CN?, comment USB-B
USB-B (USB TYPE-B) Receptacle Connector 4 Position Through Hole; Manufacturer: XUNPU; Mfr.Part #: USB-B12-BRW; LCSC Part #: C720550; Package: Through Hole; DigiKey Part Number: NO
footprint Through Hole, USB-B
pins: 1 VBUS, 2 D-, 3 D+, 4 GND

## USB-TYPE-C-018
designator CN?, comment TYPE-C
1 16P -25℃~+85℃ Type-C SMD USB, DVI, HDMI Connector Assemblies RoHS; Manufacturer: DEALON; Mfr.Part #: USB-TYPE-C-018; LCSC Part #: C2927038; Package: SMD; DigiKey Part Number: NO
footprint TYPE-C-16P-2
pins: A1_B12 GND (power), A4_B9 VBUS (power), A5 CC1, A6 DP1, A7 DN1, A8 SBU1, B1_A12 GND (power), B4_A9 VBUS (power), B5 CC2, B6 DP2, B7 DN2, B8 SBU2

## WJ15EDGVC-3.81-02P-14-00A
designator CN?, comment 15EDG-2P
2 Position Board Side/Socket - Closed 3.81mm Pitch Straight Pin; Manufacturer: KANGNEX; Mfr.Part #: WJ15EDGVC-3.81-02P-14-00A; LCSC Part #: C8396; Package: Through Hole,P=3.81mm; DigiKey Part Number: NO
footprint Plugin,P=3.81,2P
pins: 1, 2

## WJ15EDGVC-3.81-05P-14-00A
designator CN?, comment 15EDG-5P
5 Position Board Side/Socket - Closed 3.81mm Pitch Straight Pin; Manufacturer: KANGNEX; Mfr.Part #: WJ15EDGVC-3.81-05P-14-00A; LCSC Part #: C8391; Package: Through Hole,P=3.81mm; DigiKey Part Number: NO
footprint Plugin,P=3.81,5P
pins: 1, 2, 3, 4, 5

## WJ15EDGVC-3.81-08P-14-00A
designator CN?, comment 15EDG-8P
8 Position Board Side/Socket - Closed 3.81mm Pitch Straight Pin; Manufacturer: KANGNEX; Mfr.Part #: WJ15EDGVC-3.81-08P-14-00A; LCSC Part #: C31930; Package: Through Hole,P=3.81mm; DigiKey Part Number: NO
footprint Plugin,P=3.81,8P
pins: 1, 2, 3, 4, 5, 6, 7, 8

## WJ15EDGVC-3.81-09P-14-00A
designator CN?, comment 15EDG-9P
9 Position Board Side/Socket - Closed 3.81mm Pitch Straight Pin; Manufacturer: KANGNEX; Mfr.Part #: WJ15EDGVC-3.81-09P-14-00A; LCSC Part #: C49737; Package: Through Hole,P=3.81mm; DigiKey Part Number: NO
footprint Plugin,P=3.81,9P
pins: 1, 2, 3, 4, 5, 6, 7, 8, 9

## WJ500V-5.08-2P
designator CN?, comment 5.08-2P
2 Position Wire to Board Terminal Block Through Hole 5.08mm; Manufacturer: KANGNEX; Mfr.Part #: WJ500V-5.08-2P; LCSC Part #: C8465; Package: Through Hole,P=5.08mm; DigiKey Part Number: NO; ComponentLink1Description: Link; ComponentLink1URL: https://www.lcsc.com/product-detail/C8465.html?s_z=n_5.08; ComponentLink2Description: Link 1
pins: 1, 2

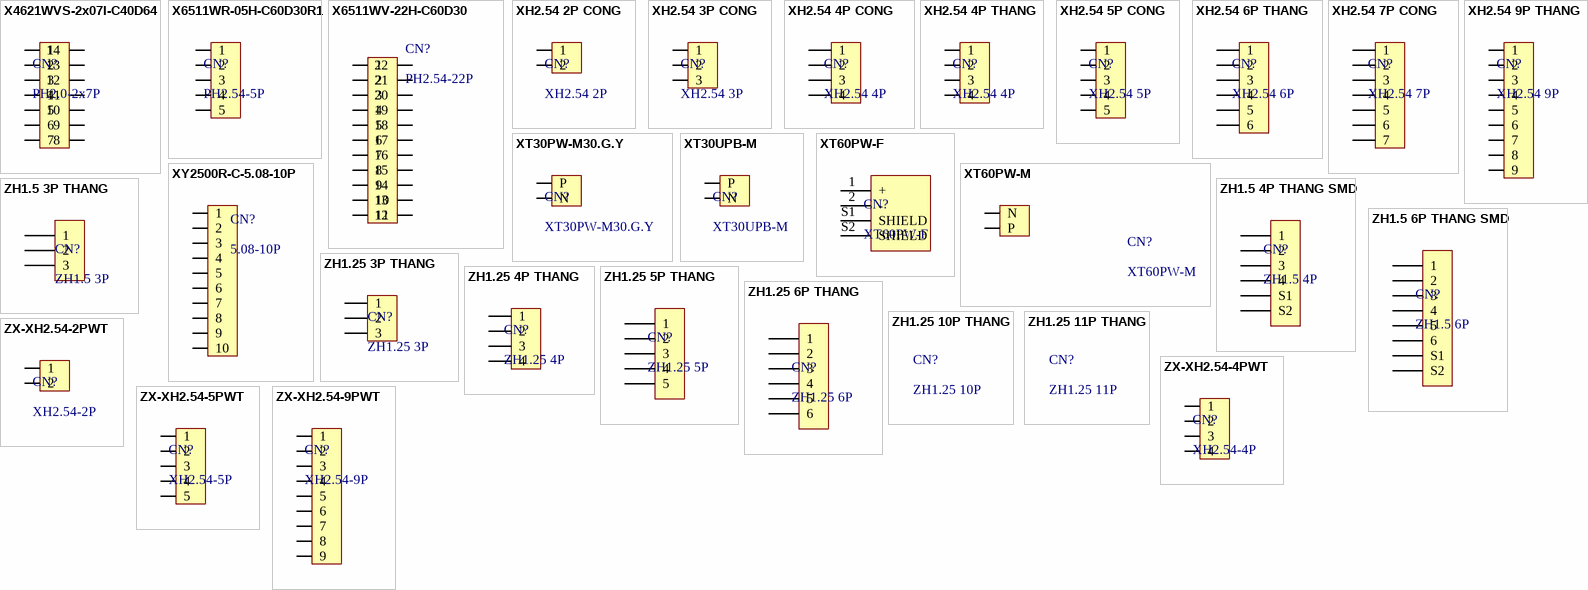
[diagram p3: symbols X4621WVS-2x07I-C40D64 to ZX-XH2.54-9PWT]

## X4621WVS-2x07I-C40D64
designator CN?, comment PH2.0-2x7P
Pin Header 14 Position 2mm Pitch Dual Row -40℃~+105℃; Manufacturer: XKB Connection; Mfr.Part #: X4621WVS-2x07I-C40D64; LCSC Part #: C917612; Package: SMD,P=2mm; ComponentLink1Description: Link; ComponentLink1URL: https://www.lcsc.com/product-detail/C917612.html; ComponentLink2Description: Link 1; DigiKey Part Number: NO
footprint SMD,P=2mm,PIN HEADER,2x7P
pins: 1, 2, 3, 4, 5, 6, 7, 8, 9, 10, 11, 12, 13, 14

## X6511WR-05H-C60D30R1
designator CN?, comment PH2.54-5P
5P 1x5P Gold Brass -40℃~+105℃ Black Pin Header 2.54mm 2.5mm 250V 1 3A 2.54mm Through Hole,Right Angle,P=2.54mm Headers, Male Pins RoHS; Manufacturer: XKB Connection; Mfr.Part #: X6511WR-05H-C60D30R1; LCSC Part #: C2883843; Package: Through Hole,Right Angle,P=2.54mm
footprint Through Hole,Right Angle,P=2.54mm
pins: 1, 2, 3, 4, 5

## X6511WV-22H-C60D30
designator CN?, comment PH2.54-22P
22P 1x22P Gold Brass -40℃~+105℃ Black Pin Header 2.54mm 2.5mm 250V 1 3A 2.54mm Through Hole,P=2.54mm Headers, Male Pins RoHS; Manufacturer: XKB Connection; Mfr.Part #: X6511WV-22H-C60D30; LCSC Part #: C725954; Package: Through Hole,P=2.54mm; DigiKey Part Number: NO
footprint Plugin,P=2.54mm,22P,Pin Headers-1
pins: 1, 2, 3, 4, 5, 6, 7, 8, 9, 10, 11, 12, 13, 14, 15, 16, 17, 18, 19, 20, 21, 22

## XH2.54 2P CONG
designator CN?, comment XH2.54 2P
1x2P 2P 1 XH Tin 2.54mm 2 -25℃~+85℃ Brass 3A Bend insert Push-Pull,P=2.54mm Wire To Board Connector ROHS; Manufacturer: Bossie; Mfr.Part #: BX-XH2.54-2PWZ; Name: XH2.54 2P CONG; So_Chan_Cam: 2; So_Chan_Dan: 0; Package: Plugin,P=2.54mm
footprint Push-Pull,P=2.54mm,2P
pins: 1, 2

## XH2.54 3P CONG
designator CN?, comment XH2.54 3P
Bend-in XH 1x3P 2.5mm 3A 3 Brass Tin 1 -25℃~+85℃ 3P Push-Pull,P=2.54mm Wire To Board Connector ROHS; Manufacturer: Bossie; Mfr.Part #: BX-XH2.54-3PWZ; Name: XH2.54 3P CONG; So_Chan_Cam: 3; So_Chan_Dan: 0; Package: Push-Pull,P=2.54mm
footprint Push-Pull,P=2.54mm,3P
pins: 1, 2, 3

## XH2.54 4P CONG
designator CN?, comment XH2.54 4P
1x4P 4P 1 XH Tin 2.54mm 4 -25℃~+85℃ Brass 3A Right-Angle Push-Pull,P=2.54mm Wire To Board Connector ROHS; Manufacturer: Bossie; Mfr.Part #: BX-XH2.54-4PWZ; Name: XH2.54 4P CONG; So_Chan_Cam: 4; So_Chan_Dan: 0; Package: Push-Pull,P=2.54mm
footprint Push-Pull,P=2.54mm,4P
pins: 1, 2, 3, 4

## XH2.54 4P THANG
designator CN?, comment XH2.54 4P
1x4P 4P 1 XH Tin 2.54mm 4 -25℃~+85℃ Brass 3A Straight Plugin,P=2.54mm Wire To Board Connector ROHS; Manufacturer: Bossie; Mfr.Part #: BX-XH2.54-4PZZ; Name: XH2.54 4P THANG; So_Chan_Cam: 4; So_Chan_Dan: 0; Package: Plugin,P=2.54mm
footprint Plugin,P=2.54mm,4P
pins: 1, 2, 3, 4

## XH2.54 5P CONG
designator CN?, comment XH2.54 5P
1x5P 5P 1 XH Tin 2.54mm 5 -25℃~+85℃ Brass 3A Right-Angle Push-Pull,P=2.54mm Wire To Board Connector ROHS; Manufacturer: Bossie; Mfr.Part #: BX-XH2.54-5PWZ; Name: XH2.54 5P CONG; So_Chan_Cam: 5; So_Chan_Dan: 0; Package: Push-Pull,P=2.54mm
footprint Push-Pull,P=2.54mm,5P
pins: 1, 2, 3, 4, 5